# EAGLE library part W25N01GVZEIG_TR (library W25N01GVZEIG_TR)
Ic Flash 1gbit 104mhz 8wson
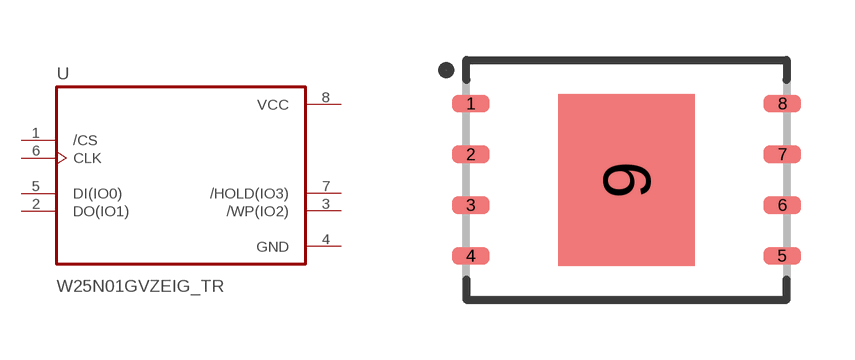
[diagram p0: symbol with the pads of SON127P800X600X80-9N; footprint SON127P800X600X80-9N]

Designator prefix U

## W25N01GVZEIG_TR (Availability: Unavailable; Description: FLASH - NAND Memory IC 1Gb (128M x 8) SPI 104MHz 8-WSON (8x6); MF: Winbond Electronics; MP: W25N01GVZEIG TR; Package: WSON-8 Winbond; Price: None)  [SON127P800X600X80-9N]
1  /CS  in
2  DO(IO1)
3  /WP(IO2)
4  GND  pwr
5  DI(IO0)
6  CLK  in
7  /HOLD(IO3)
8  VCC  pwr

## Footprint SON127P800X600X80-9N (pad centres in mm)
smd 0.94 x 0.44: 1 -3.895,1.905; 2 -3.895,0.635; 3 -3.895,-0.635; 4 -3.895,-1.905; 5 3.895,-1.905; 6 3.895,-0.635; 7 3.895,0.635; 8 3.895,1.905
smd 3.4 x 4.3: 9 0,0